# EAGLE library part TLV320AIC3104IRHBT (library TLV320AIC3104IRHBT)
Low-Power Stereo CODEC with 6 Inputs, 6 Outputs, HP Amp and Enhanced Digital Effects Source: Datasheet <http://www.ti.com/lit/gpn/tlv320aic3104>
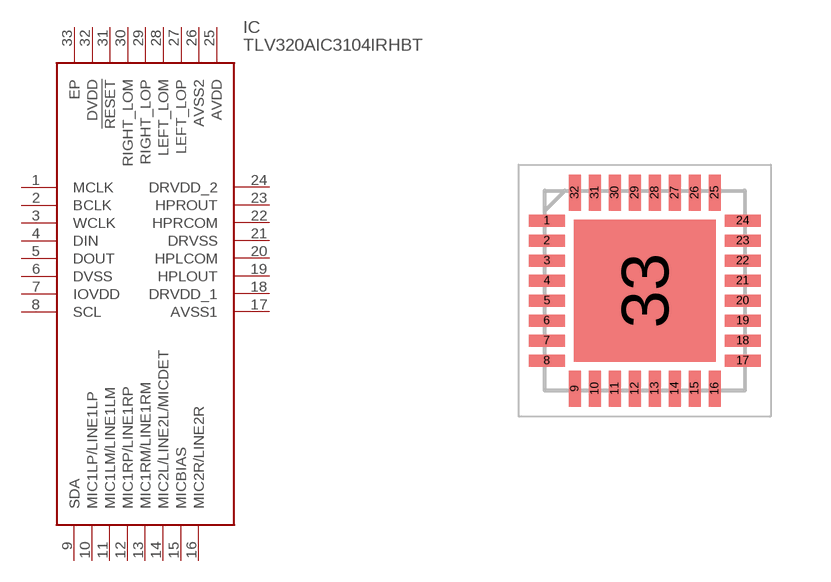
[diagram p0: symbol with the pads of QFN50P500X500X100-33N; footprint QFN50P500X500X100-33N]

Designator prefix IC

## TLV320AIC3104IRHBT (Description: Low-Power Stereo CODEC with 6 Inputs, 6 Outputs, HP Amp and Enhanced Digital Effects; Height: 1mm; Manufacturer_Name: Texas Instruments; Manufacturer_Part_Number: TLV320AIC3104IRHBT; Mouser_Part_Number: 595-TLV320C3104IRHBT; Mouser_Price-Stock: https://www.mouser.co.uk/ProductDetail/Texas-Instruments/TLV320AIC3104IRHBT?qs=t6sYTo5dwUz0wA7yRaTR5Q%3D%3D)  [QFN50P500X500X100-33N]
1  MCLK
2  BCLK
3  WCLK
4  DIN
5  DOUT
6  DVSS
7  IOVDD
8  SCL
9  SDA
10  MIC1LP/LINE1LP
11  MIC1LM/LINE1LM
12  MIC1RP/LINE1RP
13  MIC1RM/LINE1RM
14  MIC2L/LINE2L/MICDET
15  MICBIAS
16  MIC2R/LINE2R
17  AVSS1
18  DRVDD_1
19  HPLOUT
20  HPLCOM
21  DRVSS
22  HPRCOM
23  HPROUT
24  DRVDD_2
25  AVDD
26  AVSS2
27  LEFT_LOP
28  LEFT_LOM
29  RIGHT_LOP
30  RIGHT_LOM
31  !RESET
32  DVDD
33  EP

## Footprint QFN50P500X500X100-33N (pad centres in mm)
RHB (S-PVQFN-N32)
smd 0.9 x 0.3: 1 -2.45,1.75; 2 -2.45,1.25; 3 -2.45,0.75; 4 -2.45,0.25; 5 -2.45,-0.25; 6 -2.45,-0.75; 7 -2.45,-1.25; 8 -2.45,-1.75; 17 2.45,-1.75; 18 2.45,-1.25; 19 2.45,-0.75; 20 2.45,-0.25; 21 2.45,0.25; 22 2.45,0.75; 23 2.45,1.25; 24 2.45,1.75
smd 0.3 x 0.9: 9 -1.75,-2.45; 10 -1.25,-2.45; 11 -0.75,-2.45; 12 -0.25,-2.45; 13 0.25,-2.45; 14 0.75,-2.45; 15 1.25,-2.45; 16 1.75,-2.45; 25 1.75,2.45; 26 1.25,2.45; 27 0.75,2.45; 28 0.25,2.45; 29 -0.25,2.45; 30 -0.75,2.45; 31 -1.25,2.45; 32 -1.75,2.45
smd 3.55 x 3.55: 33 0,0